# EAGLE library part MC12148 (library ic)
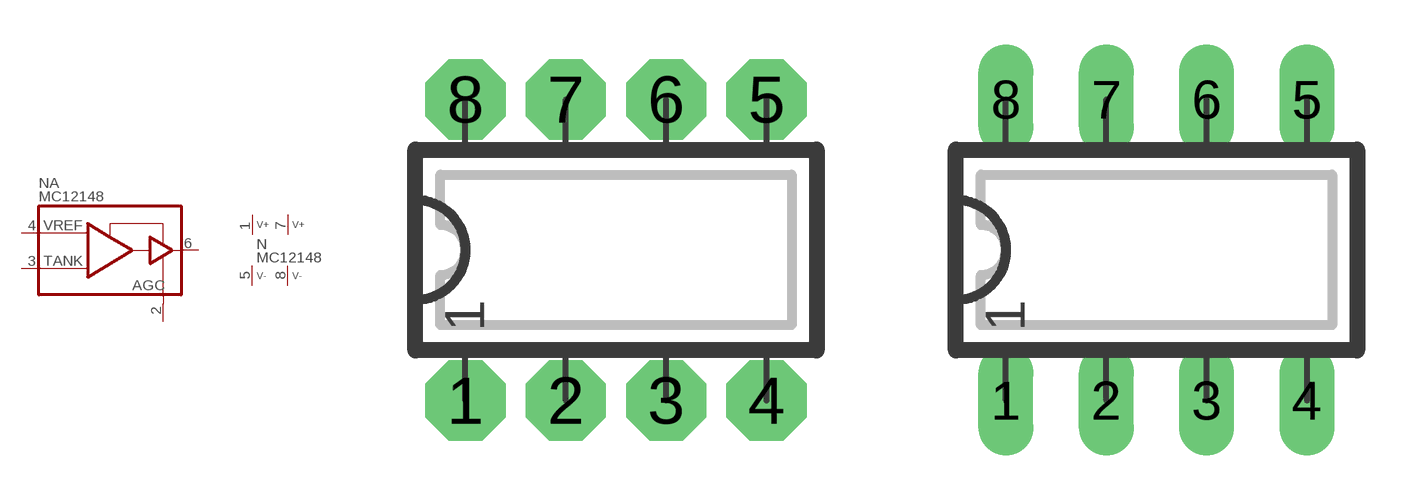
[diagram p28: symbol with the pads of DIP08N; footprints DIP08N, DIP08L]

Designator prefix N; gates A=MC12148 P=V2+2-

## MC12148N  [DIP08N]
1  P:V+1  pwr
2  A:AGC  pas
3  A:TANK  pas
4  A:VREF  pas
5  P:V-1  pwr
6  A:OUT  out
7  P:V+2  pwr
8  P:V-2  pwr

## MC12148  [DIP08L]
Pads as for DIP08N

## MC12148L  [DIP08L]
Pads as for DIP08N

## MC12148R  [DIP08R]
Pads as for DIP08N

## Footprint DIP08N (pad centres in mm)
DIP-8 Standard IC package, 8 pins
drill 0.813 pad 2.032 octagon: 1 -3.81,-3.81; 2 -1.27,-3.81; 3 1.27,-3.81; 4 3.81,-3.81; 5 3.81,3.81; 6 1.27,3.81; 7 -1.27,3.81; 8 -3.81,3.81

## Footprint DIP08L (pad centres in mm)
DIP-8, long pads Standard IC package, 8 pins
drill 0.813 pad 1.397 long: 1 -3.81,-3.81; 2 -1.27,-3.81; 3 1.27,-3.81; 4 3.81,-3.81; 5 3.81,3.81; 6 1.27,3.81; 7 -1.27,3.81; 8 -3.81,3.81

## Footprint DIP08R (pad centres in mm)
DIP-8, reduced pads Standard IC package, 8 pins
drill 0.813 pad 1.397 square: 1 -3.81,-3.81; 2 -1.27,-3.81; 3 1.27,-3.81; 4 3.81,-3.81; 5 3.81,3.81; 6 1.27,3.81; 7 -1.27,3.81; 8 -3.81,3.81